# EAGLE library part ER-OLED0.69 (library AloyseTech-IC)
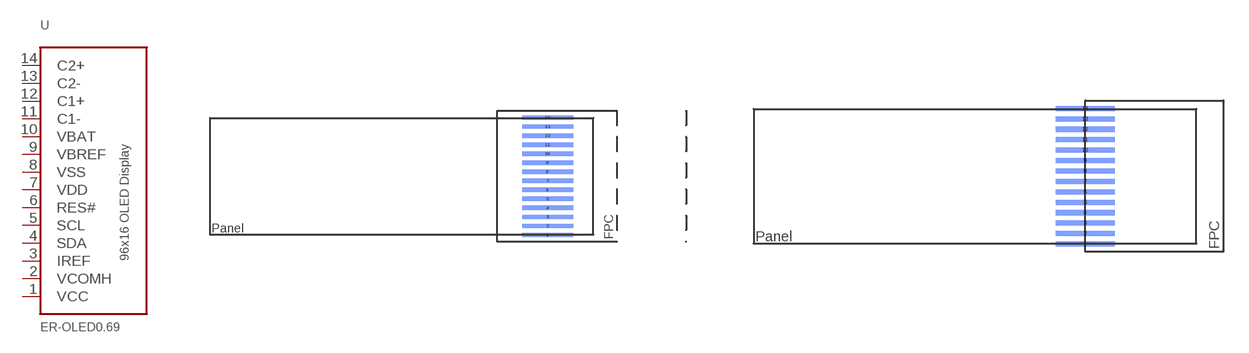
[diagram p4: symbol with the pads of ER-OLED0.69-SPACER; footprints ER-OLED0.69-SPACER, ER-OLED0.69]

Designator prefix -

## ER-OLED0.69-SPACER  [ER-OLED0.69-SPACER]
1  VCC
2  VCOMH
3  IREF
4  SDA
5  SCL
6  RES#
7  VDD
8  VSS
9  VBREF
10  VBAT
11  C1-
12  C1+
13  C2-
14  C2+

## ER-OLED0.69-WARP  [ER-OLED0.69]
Pads as for ER-OLED0.69-SPACER

## Footprint ER-OLED0.69-SPACER (pad centres in mm)
smd 3.5 x 0.3 bottom: 1 12.245,-4.64; 2 12.245,-4.02; 3 12.245,-3.4; 4 12.245,-2.78; 5 12.245,-2.16; 6 12.245,-1.54; 7 12.245,-0.92; 8 12.245,-0.3; 9 12.245,0.32; 10 12.245,0.94; 11 12.245,1.56; 12 12.245,2.18; 13 12.245,2.8; 14 12.245,3.42

## Footprint ER-OLED0.69 (pad centres in mm)
smd 3.5 x 0.3 bottom: 1 6.56,-4.03; 2 6.56,-3.41; 3 6.56,-2.79; 4 6.56,-2.17; 5 6.56,-1.55; 6 6.56,-0.93; 7 6.56,-0.31; 8 6.56,0.31; 9 6.56,0.93; 10 6.56,1.55; 11 6.56,2.17; 12 6.56,2.79; 13 6.56,3.41; 14 6.56,4.03